# Altium footprint library ADS8332_PCBlib.PcbLib: 1 footprints
Each footprint in its own frame and in the unit in brackets; x right, y up, seen from the top. Pads: shape width x height; smd on the part's side, far side on the other; paste and mask are expansions set on the pad; w line width, h text height; cw(c..) or ccw(c..) is an arc to the next point about the centre after c.
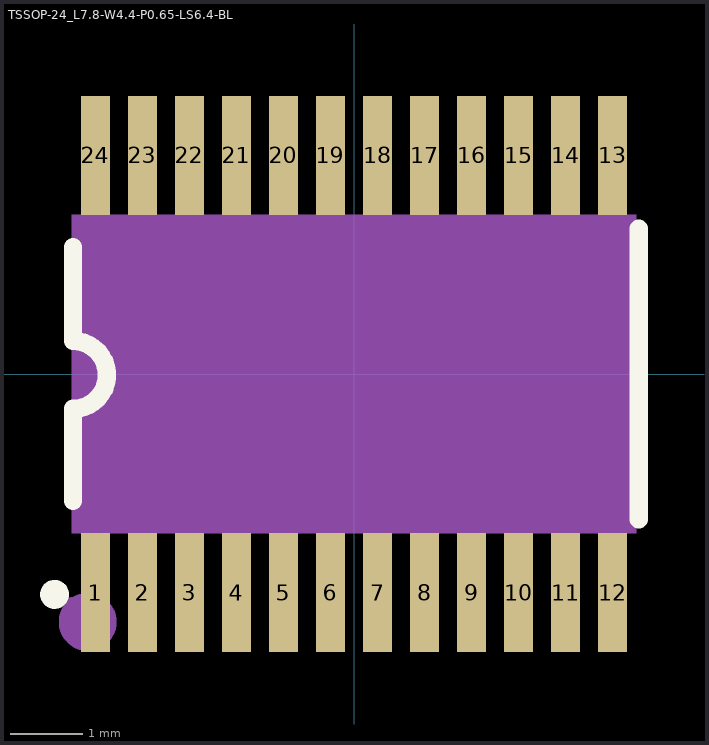
[diagram p0: the footprint, top view; thin cyan lines are the x and y axes]

## TSSOP-24_L7.8-W4.4-P0.65-LS6.4-BL [mm]
pads (24):
  rect 0.4x1.65 smd: 1(-3.575,-3.023) 2(-2.925,-3.023) 3(-2.275,-3.023) 4(-1.625,-3.023) 5(-0.975,-3.023) 6(-0.325,-3.023) 7(0.325,-3.023) 8(0.975,-3.023) 9(1.625,-3.023) 10(2.275,-3.023) 11(2.925,-3.023) 12(3.575,-3.023) 13(3.575,3.023) 14(2.925,3.023) 15(2.275,3.023) 16(1.625,3.023) 17(0.975,3.023) 18(0.325,3.023) 19(-0.325,3.023) 20(-0.975,3.023) 21(-1.625,3.023) 22(-2.275,3.023) 23(-2.925,3.023) 24(-3.575,3.023)
Top Overlay:
  circle w0.2: c-4.14,-3.048 r0.1
  lines w0.254: -3.886,-1.753 -3.886,-0.483 ccw(c-3.886,-0.013) -3.886,0.457 ; -3.886,0.483 -3.886,1.753 ; 3.937,-2.007 3.937,2.007
Mechanical 4:
  region: -3.9,2.2 3.9,2.2 3.9,-2.2 -3.9,-2.2
Mechanical 5:
  drawing of 48 lines, arcs and shapes, not listed
Mechanical 6:
  circle w0.1: c-3.9,-3.186 r0.05
Mechanical 15:
  circle w0.4: c-3.683,-3.429 r0.2